# Altium schematic symbol library IC CMOS 4xxx.SchLib: 13 symbols
Pins are listed as number, name and electrical type; pins without a type are passive.

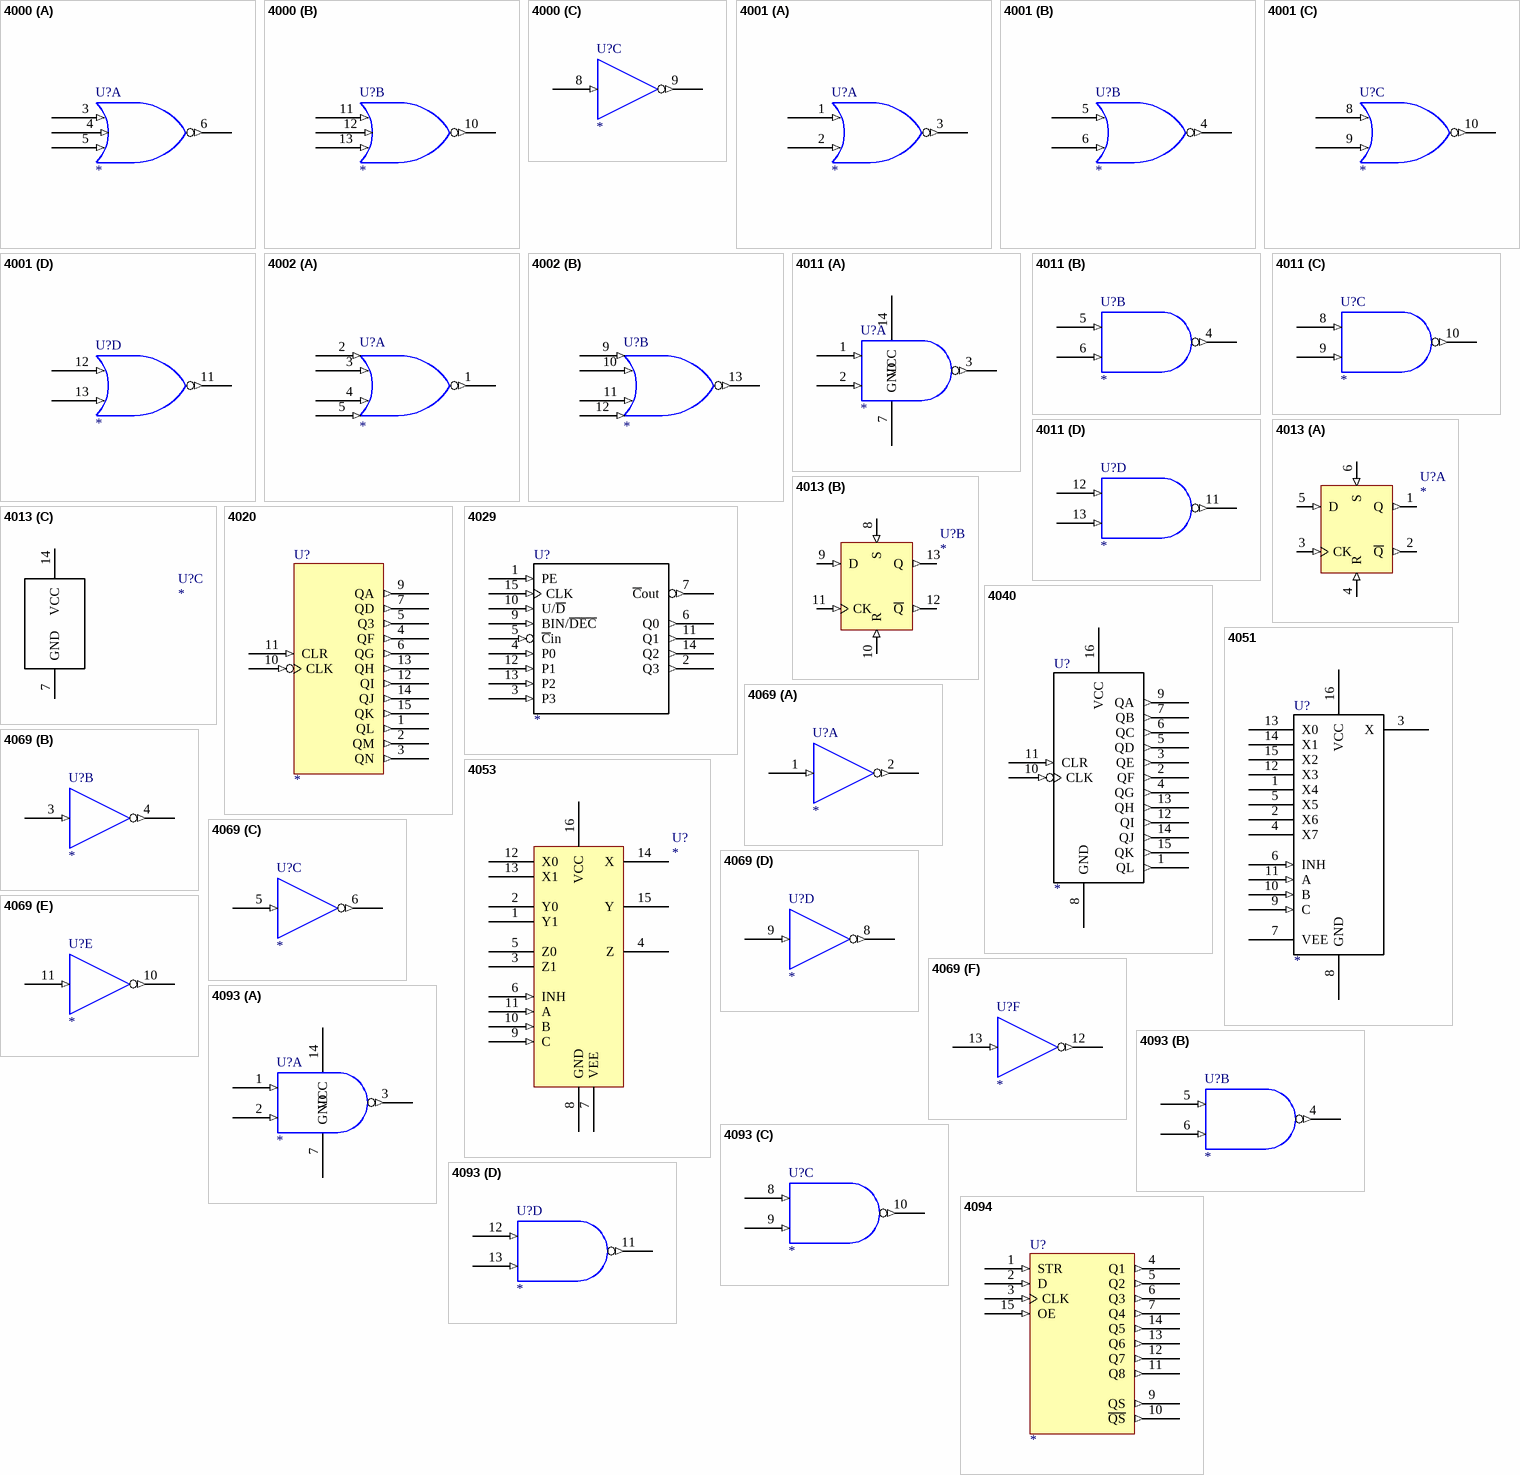
[diagram p0: symbols 4000 to 4094]

## 4000
designator U?
DUAL 3-INPUT NOR GATE PULSE INVERTER
footprint SO14
part A pins: 3 (in), 4 (in), 5 (in), 6 (out), 7 GND (power) hidden to GND, 14 VCC (power) hidden to VCC
part B pins: 10 (out), 11 (in), 12 (in), 13 (in)
part C pins: 8 (in), 9 (out)

## 4001
designator U?
Quad 2-INPUT NOR GATE
footprint SO14
part A pins: 1 (in), 2 (in), 3 (out), 7 GND (power) hidden to GND, 14 VCC (power) hidden to VCC
part B pins: 4 (out), 5 (in), 6 (in)
part C pins: 8 (in), 9 (in), 10 (out)
part D pins: 11 (out), 12 (in), 13 (in)

## 4002
designator U?
Dual 4-INPUT NOR GATE
footprint SO14
part A pins: 1 (out), 2 (in), 3 (in), 4 (in), 5 (in), 7 GND (power) hidden to GND, 14 VCC (power) hidden to VCC
part B pins: 9 (in), 10 (in), 11 (in), 12 (in), 13 (out)

## 4011
designator U?
Quad 2-INPUT Nand G
footprint SO14
part A pins: 1 (in), 2 (in), 3 (out), 7 GND (power), 14 VCC (power)
part B pins: 4 (out), 5 (in), 6 (in)
part C pins: 8 (in), 9 (in), 10 (out)
part D pins: 11 (out), 12 (in), 13 (in)

## 4013
designator U?
Dual D-Type Flip-Flop
footprint so14
part A pins: 1 Q (out), 2 ~{Q} (out), 3 CK (in), 4 R (in), 5 D (in), 6 S (in)
part B pins: 8 S (in), 9 D (in), 10 R (in), 11 CK (in), 12 ~{Q} (out), 13 Q (out)
part C pins: 7 GND, 14 VCC

## 4020
designator U?
14-BIT BINARY COUNTER
footprint SO16
pins: 1 QL (out), 2 QM (out), 3 QN (out), 4 QF (out), 5 Q3 (out), 6 QG (out), 7 QD (out), 8 GND (power) hidden to GND, 9 QA (out), 10 CLK (in), 11 CLR (in), 12 QI (out), 13 QH (out), 14 QJ (out), 15 QK (out), 16 VCC (power) hidden to VCC
1 alternate drawing of the same symbol

## 4029
designator U?
BINARY/DECADE UP/DOWN COUNTER
footprint so16
pins: 1 PE (in), 2 Q3 (out), 3 P3 (in), 4 P0 (in), 5 ~{C}in (in), 6 Q0 (out), 7 ~{C}out (out), 8 GND (power) hidden to GND, 9 BIN/~{DEC} (in), 10 U/~{D} (in), 11 Q1 (out), 12 P1 (in), 13 P2 (in), 14 Q2 (out), 15 CLK (in), 16 VCC (power) hidden to VCC
1 alternate drawing of the same symbol

## 4040
designator U?
ASYNCHRONOUS 12-BIT BINARY COUNTERS
footprint SO16
pins: 1 QL (out), 2 QF (out), 3 QE (out), 4 QG (out), 5 QD (out), 6 QC (out), 7 QB (out), 8 GND (power), 9 QA (out), 10 CLK (in), 11 CLR (in), 12 QI (out), 13 QH (out), 14 QJ (out), 15 QK (out), 16 VCC (power)
1 alternate drawing of the same symbol

## 4051
designator U?
footprint so16
pins: 1 X4, 2 X6, 3 X, 4 X7, 5 X5, 6 INH (in), 7 VEE, 8 GND (power), 9 C (in), 10 B (in), 11 A (in), 12 X3, 13 X0, 14 X1, 15 X2, 16 VCC (power)

## 4053
designator U?
footprint so16
pins: 1 Y1, 2 Y0, 3 Z1, 4 Z, 5 Z0, 6 INH (in), 7 VEE, 8 GND (power), 9 C (in), 10 B (in), 11 A (in), 12 X0, 13 X1, 14 X, 15 Y, 16 VCC (power)

## 4069
designator U?
HEX INVERTER
footprint SO14
part A pins: 1 (in), 2 (out), 7 GND (power) hidden to GND, 14 VCC (power) hidden to VCC
part B pins: 3 (in), 4 (out)
part C pins: 5 (in), 6 (out)
part D pins: 8 (out), 9 (in)
part E pins: 10 (out), 11 (in)
part F pins: 12 (out), 13 (in)

## 4093
designator U?
Quad 2-INPUT NAND SCHMITT TRIGGER
footprint SO14
part A pins: 1 (in), 2 (in), 3 (out), 7 GND (power), 14 VCC (power)
part B pins: 4 (out), 5 (in), 6 (in)
part C pins: 8 (in), 9 (in), 10 (out)
part D pins: 11 (out), 12 (in), 13 (in)

## 4094
designator U?
footprint SO16
pins: 1 STR (in), 2 D (in), 3 CLK (in), 4 Q1 (out), 5 Q2 (out), 6 Q3 (out), 7 Q4 (out), 8 GND (power) hidden to GND, 9 QS (out), 10 ~{QS} (out), 11 Q8 (out), 12 Q7 (out), 13 Q6 (out), 14 Q5 (out), 15 OE (in), 16 VCC (power) hidden to VCC